# Altium integrated library TM1640.IntLib: 1 symbol
Pins are listed as number, name and electrical type; pins without a type are passive.

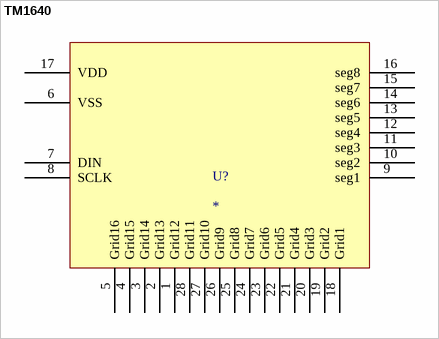
[diagram p0: symbol TM1640]

## TM1640
designator U?
Tm1640; MF: ISSI; Value: *; Price: None; Package: SOP-28 ISSI; Check_prices: https://www.snapeda.com/parts/IS62C256AL-25ULI/ISSI/view-part/1159174/?ref=eda; Availability: Warning; Purchase-URL: https://pricing.snapeda.com/search/part/IS62C256AL-25ULI/?ref=eda; MP: TM1640; SnapEDA_Link: https://www.snapeda.com/parts/IS62C256AL-25ULI/ISSI/view-part/1159174/?ref=snap
footprint TM1640
pins: 1 Grid12, 2 Grid13, 3 Grid14, 4 Grid15, 5 Grid16, 6 VSS, 7 DIN, 8 SCLK, 9 seg1, 10 seg2, 11 seg3, 12 seg4, 13 seg5, 14 seg6, 15 seg7, 16 seg8, 17 VDD, 18 Grid1, 19 Grid2, 20 Grid3, 21 Grid4, 22 Grid5, 23 Grid6, 24 Grid7, 25 Grid8, 26 Grid9, 27 Grid10, 28 Grid11